# Altium integrated library Resistors.IntLib: 40 symbols
Pins are listed as number, name and electrical type; pins without a type are passive.

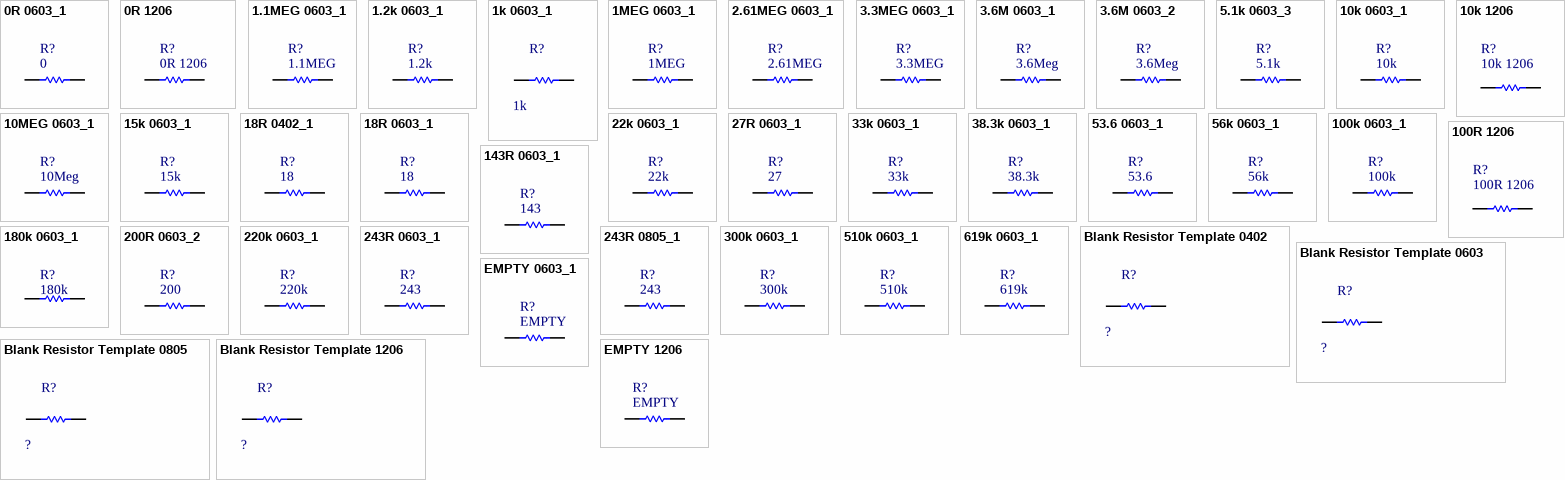
[diagram p0: symbols 0R 0603_1 to EMPTY 1206]

## 0R 0603_1
designator R?, comment 0
0.0R 0603 1/10W; Fabrication Tested: NO; Creator and Date: Will Flanery 2010-02-12; Footprint Verified By: *; Schematic Verified By: *; Vendor Info Verified By: *; Supplier 1: Digi-Key; Supplier Part Number 1: RMCF0603ZT0R00CT-ND; Value: 0
footprint 1608[0603] - Resistor (Chip Capacitor; Body 1.6 x 0.8 mm (LxW typ))
simulation model Model Name (Model Description)
simulation model RES (Default semiconductor resistor)
pins: 1, 2

## 0R 1206
designator R?
Manufacturer Part Number: ERJ-8GEY0R00V; Manufacturer: Panasonic - ECG; Temperature Coefficient: -100/+600ppm/°C; Tolerance: Jumper; Resistance In Ohms: 0.0; Power (Watts): 0.25W, 1/4W; Description: RES ZERO OHM 1/4W 5% 1206 SMD; Packaging: Cut Tape (CT); RoHS: RoHS Compliant; Category: Resistors; Case: 1206 (3216 metric); Lead Style: Surface Mount (SMD - SMT); Composition: Thick Film; ComponentLink1URL: http://industrial.panasonic.com/www-cgi/jvcr13pz.cgi?E+PZ+3+AOA0001+ERJ8GEY0R00V+7+WW; ComponentLink1Description: http://industrial.panasonic.com/www-cgi/jvcr13pz.cgi?E+PZ+3+AOA0001+ERJ8GEY0R00V+7+WW; Pricing: 10=0.094, 50=0.0506, 200=0.0291, 1000=0.01987 (USD); Stock: 312000; Supplier 1: Digi-Key; Supplier Part Number 1: P0.0ECT-ND; Supplier Part Number: P0.0ECT-ND; Supplier: Digi-Key
footprint RESC3216M (Chip Resistor, Body 3.2x1.6mm, IPC Low Density)
simulation model RESISTOR (Resistor)
signal-integrity model Res
pins: 1, 2

## 1.1MEG 0603_1
designator R?, comment 1.1MEG
1.1MEG 0603 1% 1/10W; Fabrication Tested: NO; Creator and Date: *; Footprint Verified By: *; Schematic Verified By: *; Vendor Info Verified By: *; Supplier 1: Digi-Key; Supplier Part Number 1: P1.10MHCT-ND; Value: 1.1MEG
footprint 1608[0603] - Resistor (Chip Capacitor; Body 1.6 x 0.8 mm (LxW typ))
simulation model Model Name (Model Description)
simulation model RES (Default semiconductor resistor)
pins: 1, 2

## 1.2k 0603_1
designator R?, comment 1.2k
1.2k 0603 5% 1/10W; Fabrication Tested: NO; Creator and Date: Will Flanery 6/17/2010; Footprint Verified By: *; Schematic Verified By: *; Vendor Info Verified By: *; Supplier 1: Digi-Key; Supplier Part Number 1: RMCF1/161.2KJRCT-ND; Value: 1.2k
footprint 1608[0603] - Resistor (Chip Capacitor; Body 1.6 x 0.8 mm (LxW typ))
simulation model Model Name (Model Description)
simulation model RES (Default semiconductor resistor)
pins: 1, 2

## 1k 0603_1
designator R?, comment 1k
1k 0603 1% 1/10W; Fabrication Tested: NO; Creator and Date: Will Flanery 2010-02-12; Footprint Verified By: *; Schematic Verified By: *; Vendor Info Verified By: *; Supplier 1: Digi-Key; Value: 1k; Supplier Part Number 1: RMCF0603FT1K00CT-ND
footprint 1608[0603] - Resistor (Chip Capacitor; Body 1.6 x 0.8 mm (LxW typ))
simulation model Model Name (Model Description)
simulation model RES (Default semiconductor resistor)
pins: 1, 2

## 1MEG 0603_1
designator R?, comment 1MEG
1Meg 0603 1% 1/10W; Fabrication Tested: NO; Creator and Date: *; Footprint Verified By: *; Schematic Verified By: *; Vendor Info Verified By: *; Supplier 1: Digi-Key; Supplier Part Number 1: P1.00MHCT-ND; Value: 1MEG
footprint 1608[0603] - Resistor (Chip Capacitor; Body 1.6 x 0.8 mm (LxW typ))
simulation model Model Name (Model Description)
simulation model RES (Default semiconductor resistor)
pins: 1, 2

## 2.61MEG 0603_1
designator R?, comment 2.61MEG
2.61MEG 0603 1% 1/10W; Fabrication Tested: NO; Creator and Date: *; Footprint Verified By: *; Schematic Verified By: *; Vendor Info Verified By: *; Supplier 1: Digi-Key; Supplier Part Number 1: 541-2.61MHCT-ND; Value: 2.61MEG
footprint 1608[0603] - Resistor (Chip Capacitor; Body 1.6 x 0.8 mm (LxW typ))
simulation model Model Name (Model Description)
simulation model RES (Default semiconductor resistor)
pins: 1, 2

## 3.3MEG 0603_1
designator R?, comment 3.3MEG
3.3 Meg 0603 5% 1/10W; Fabrication Tested: NO; Creator and Date: Will Flanery 2010-02-12; Footprint Verified By: *; Schematic Verified By: *; Vendor Info Verified By: *; Supplier 1: Digi-Key; Supplier Part Number 1: RMCF1/163.3MJRCT-ND; Supplier 2: Digi-Key; Supplier Part Number 2: 311-3.3MGRCT-ND; Value: 3.3MEG
footprint 1608[0603] - Resistor (Chip Capacitor; Body 1.6 x 0.8 mm (LxW typ))
simulation model Model Name (Model Description)
simulation model RES (Default semiconductor resistor)
pins: 1, 2

## 3.6M 0603_1
designator R?, comment 3.6Meg
3.6M 0603 5% 1/10W; Fabrication Tested: NO; Creator and Date: *; Footprint Verified By: *; Schematic Verified By: *; Vendor Info Verified By: *; Supplier 1: Digi-Key; Supplier Part Number 1: P3.6MGCT-ND; Value: 3.6Meg
footprint 1608[0603] - Resistor (Chip Capacitor; Body 1.6 x 0.8 mm (LxW typ))
simulation model Model Name (Model Description)
simulation model RES (Default semiconductor resistor)
pins: 1, 2

## 3.6M 0603_2
designator R?, comment 3.6Meg
3.6M 0603 1% 1/10W; Fabrication Tested: NO; Creator and Date: *; Footprint Verified By: *; Schematic Verified By: *; Vendor Info Verified By: *; Supplier 1: Digi-Key; Supplier Part Number 1: 541-3.65MHCT-ND; Value: 3.6Meg
footprint 1608[0603] - Resistor (Chip Capacitor; Body 1.6 x 0.8 mm (LxW typ))
simulation model Model Name (Model Description)
simulation model RES (Default semiconductor resistor)
pins: 1, 2

## 5.1k 0603_3
designator R?, comment 5.1k
5.1k 0603 1% 1/10W; Fabrication Tested: NO; Creator and Date: Will Flanery 2010-02-12; Footprint Verified By: *; Schematic Verified By: *; Vendor Info Verified By: *; Supplier 1: Digi-Key; Supplier Part Number 1: RMCF1/165.1KFRCT-ND; Value: 5.1k
footprint 1608[0603] - Resistor (Chip Capacitor; Body 1.6 x 0.8 mm (LxW typ))
simulation model Model Name (Model Description)
simulation model RES (Default semiconductor resistor)
pins: 1, 2

## 10k 0603_1
designator R?, comment 10k
10k 0603 1% 1/10W; Fabrication Tested: NO; Creator and Date: Will Flanery 2010-02-12; Footprint Verified By: *; Schematic Verified By: *; Vendor Info Verified By: *; Supplier 1: Digi-Key; Supplier Part Number 1: RMCF1/1610KFRCT-ND; Value: 10k
footprint 1608[0603] - Resistor (Chip Capacitor; Body 1.6 x 0.8 mm (LxW typ))
simulation model Model Name (Model Description)
simulation model RES (Default semiconductor resistor)
pins: 1, 2

## 10k 1206
designator R?
Thick Film Chip Resistor, 1 Ohm to 10M Ohm Range, 5% Tolerance, 1206 Size, 0.25 W; Manufacturer Part Number: ERJ-8ENF1002V; Manufacturer: Panasonic - ECG; Tolerance: ±1%; Power (Watts): 0.25W, 1/4W; Resistance In Ohms: 10.0K; Description: RES 10.0K OHM 1/4W 1% 1206 SMD; Lead Style: Surface Mount (SMD - SMT); Composition: Thick Film; RoHS: RoHS Compliant; Case: 1206 (3216 metric); Category: Resistors; Supplier 1: Digi-Key; Supplier Part Number 1: P10.0KFCT-ND
footprint RESC3216M (Chip Resistor, Body 3.2x1.6mm, IPC Low Density)
simulation model RESISTOR (Resistor)
signal-integrity model Res
pins: 1, 2

## 10MEG 0603_1
designator R?, comment 10Meg
10MEG 0603 % W; Fabrication Tested: NO; Creator and Date: Will Flanery 2010-09-03; Footprint Verified By: *; Schematic Verified By: *; Vendor Info Verified By: *; Supplier 1: Digi-Key; Supplier Part Number 1: P1.10MHCT-ND; Supplier 2: Digi-Key; Supplier Part Number 2: RHM10.0MAYCT-ND; Value: 10Meg
footprint 1608[0603] - Resistor (Chip Capacitor; Body 1.6 x 0.8 mm (LxW typ))
simulation model Model Name (Model Description)
simulation model RES (Default semiconductor resistor)
pins: 1, 2

## 15k 0603_1
designator R?, comment 15k
15k 0603 5% 1/10W; Fabrication Tested: NO; Creator and Date: *; Footprint Verified By: *; Schematic Verified By: *; Vendor Info Verified By: *; Supplier 1: Digi-Key; Supplier Part Number 1: P15KGCT-ND; Value: 15k
footprint 1608[0603] - Resistor (Chip Capacitor; Body 1.6 x 0.8 mm (LxW typ))
simulation model Model Name (Model Description)
simulation model RES (Default semiconductor resistor)
pins: 1, 2

## 18R 0402_1
designator R?, comment 18
18R 0402 1% 1/10W; Fabrication Tested: NO; Creator and Date: *; Footprint Verified By: *; Schematic Verified By: *; Vendor Info Verified By: *; Supplier 1: Digi-Key; Supplier Part Number 1: P18.0LCT-ND; Value: 18
footprint 1005[0402] (Chip Resistor; Body 1.1 x 0.5 mm (LxW typ))
simulation model Model Name (Model Description)
simulation model RES (Default semiconductor resistor)
pins: 1, 2

## 18R 0603_1
designator R?, comment 18
18R 0603 1% 1/10W; Fabrication Tested: NO; Creator and Date: Will Flanery; Footprint Verified By: *; Schematic Verified By: *; Vendor Info Verified By: *; Supplier 1: Digi-Key; Supplier Part Number 1: P18.0HCT-ND; Supplier 2: Digi-Key; Supplier Part Number 2: RHM18.0HCT-ND; Value: 18
footprint 1608[0603] - Resistor (Chip Capacitor; Body 1.6 x 0.8 mm (LxW typ))
simulation model Model Name (Model Description)
simulation model RES (Default semiconductor resistor)
pins: 1, 2

## 22k 0603_1
designator R?, comment 22k
22k 0603 5% 1/10W; Fabrication Tested: NO; Creator and Date: Will Flanery 2010-02-12; Footprint Verified By: *; Schematic Verified By: *; Vendor Info Verified By: *; Supplier 1: Digi-Key; Supplier Part Number 1: RMCF1/1622KJRCT-ND; Value: 22k
footprint 1608[0603] - Resistor (Chip Capacitor; Body 1.6 x 0.8 mm (LxW typ))
simulation model Model Name (Model Description)
simulation model RES (Default semiconductor resistor)
pins: 1, 2

## 27R 0603_1
designator R?, comment 27
27R 0603 1% 1/5W; Fabrication Tested: NO; Creator and Date: Will Flanery 2010-07-09; Footprint Verified By: *; Schematic Verified By: *; Vendor Info Verified By: *; Supplier 1: Digi-Key; Supplier Part Number 1: RP16S27FCT-ND; Value: 27
footprint 1608[0603] - Resistor (Chip Capacitor; Body 1.6 x 0.8 mm (LxW typ))
simulation model Model Name (Model Description)
simulation model RES (Default semiconductor resistor)
pins: 1, 2

## 33k 0603_1
designator R?, comment 33k
val 0603 5% 1/10W; Fabrication Tested: NO; Creator and Date: Will Flanery 2010-02-12; Footprint Verified By: *; Schematic Verified By: *; Vendor Info Verified By: *; Supplier 1: Digi-Key; Supplier Part Number 1: RMCF1/1633KJRCT-ND; Value: 33k
footprint 1608[0603] - Resistor (Chip Capacitor; Body 1.6 x 0.8 mm (LxW typ))
simulation model Model Name (Model Description)
simulation model RES (Default semiconductor resistor)
pins: 1, 2

## 38.3k 0603_1
designator R?, comment 38.3k
38.3k 0603 1% 1/10W; Fabrication Tested: NO; Creator and Date: Will Flanery 2010-02-12; Footprint Verified By: *; Schematic Verified By: *; Vendor Info Verified By: *; Supplier 1: Digi-Key; Supplier Part Number 1: 311-38.3KHRCT-ND; Value: 38.3k
footprint 1608[0603] - Resistor (Chip Capacitor; Body 1.6 x 0.8 mm (LxW typ))
simulation model Model Name (Model Description)
simulation model RES (Default semiconductor resistor)
pins: 1, 2

## 53.6 0603_1
designator R?, comment 53.6
53.6 0603 1% 1/10W; Fabrication Tested: NO; Creator and Date: Will Flanery 2010-07-09; Footprint Verified By: *; Schematic Verified By: *; Vendor Info Verified By: *; Supplier 1: Digi-Key; Supplier Part Number 1: 541-53.6HCT-ND; Value: 53.6
footprint 1608[0603] - Resistor (Chip Capacitor; Body 1.6 x 0.8 mm (LxW typ))
simulation model Model Name (Model Description)
simulation model RES (Default semiconductor resistor)
pins: 1, 2

## 56k 0603_1
designator R?, comment 56k
56k 0603 1% 1/10W; Fabrication Tested: NO; Creator and Date: Will Flanery 2010-02-12; Footprint Verified By: *; Schematic Verified By: *; Vendor Info Verified By: *; Supplier 1: Digi-Key; Supplier Part Number 1: P56.0KHCT-ND; Value: 56k
footprint 1608[0603] - Resistor (Chip Capacitor; Body 1.6 x 0.8 mm (LxW typ))
simulation model Model Name (Model Description)
simulation model RES (Default semiconductor resistor)
pins: 1, 2

## 100k 0603_1
designator R?, comment 100k
100k 0603 5% 1/10W; Fabrication Tested: NO; Creator and Date: Will Flanery 2010-02-11; Footprint Verified By: *; Schematic Verified By: *; Vendor Info Verified By: *; Supplier 1: Digi-Key; Supplier Part Number 1: RMCF0603JT100KCT-ND; Value: 100k
footprint 1608[0603] - Resistor (Chip Capacitor; Body 1.6 x 0.8 mm (LxW typ))
simulation model Model Name (Model Description)
simulation model RES (Default semiconductor resistor)
pins: 1, 2

## 100R 1206
designator R?
Manufacturer: Panasonic - ECG; Manufacturer Part Number: ERJ-8ENF1000V; Temperature Coefficient: ±100ppm/°C; Tolerance: ±1%; Power (Watts): 0.25W, 1/4W; Resistance In Ohms: 100; Description: RES 100 OHM 1/4W 1% 1206 SMD; Case: 1206 (3216 metric); Packaging: Cut Tape (CT); Composition: Thick Film; Lead Style: Surface Mount (SMD - SMT); Category: Resistors; RoHS: RoHS Compliant; Stock: 118560; Pricing: 10=0.117, 50=0.063, 200=0.03615, 1000=0.02465 (USD); Supplier 1: Digi-Key; Supplier Part Number 1: P100FCT-ND; Supplier Part Number: P100FCT-ND; Supplier: Digi-Key
footprint RESC3216M (Chip Resistor, Body 3.2x1.6mm, IPC Low Density)
simulation model RESISTOR (Resistor)
signal-integrity model Res
pins: 1, 2

## 143R 0603_1
designator R?, comment 143
143R 0603 1% 1/10W; Fabrication Tested: NO; Creator and Date: Will Flanery 6/17/2010; Footprint Verified By: *; Schematic Verified By: *; Vendor Info Verified By: *; Supplier 1: Digi-Key; Supplier Part Number 1: 311-143HRCT-ND; Value: 143
footprint 1608[0603] - Resistor (Chip Capacitor; Body 1.6 x 0.8 mm (LxW typ))
simulation model Model Name (Model Description)
simulation model RES (Default semiconductor resistor)
pins: 1, 2

## 180k 0603_1
designator R?, comment 180k
180k 0603 1% 1/10W; Fabrication Tested: NO; Creator and Date: Will Flanery 2010-07-13; Footprint Verified By: *; Schematic Verified By: *; Vendor Info Verified By: *; Supplier 1: Digi-Key; Supplier Part Number 1: P180KHCT-ND; Value: 180k
footprint 1608[0603] - Resistor (Chip Capacitor; Body 1.6 x 0.8 mm (LxW typ))
simulation model Model Name (Model Description)
simulation model RES (Default semiconductor resistor)
pins: 1, 2

## 200R 0603_2
designator R?, comment 200
200R 0603 1% 1/10W; Fabrication Tested: NO; Creator and Date: Will Flanery 2010-02-12; Footprint Verified By: *; Schematic Verified By: *; Vendor Info Verified By: *; Supplier 1: Digi-Key; Supplier Part Number 1: RMCF1/16200FRCT-ND; Value: 200
footprint 1608[0603] - Resistor (Chip Capacitor; Body 1.6 x 0.8 mm (LxW typ))
simulation model Model Name (Model Description)
simulation model RES (Default semiconductor resistor)
pins: 1, 2

## 220k 0603_1
designator R?, comment 220k
220k 0603 5% 1/10W; Fabrication Tested: NO; Creator and Date: Will Flanery 2010-02-12; Footprint Verified By: *; Schematic Verified By: *; Vendor Info Verified By: *; Supplier 1: Digi-Key; Supplier Part Number 1: RMCF1/16220KJRCT-ND; Value: 220k
footprint 1608[0603] - Resistor (Chip Capacitor; Body 1.6 x 0.8 mm (LxW typ))
simulation model Model Name (Model Description)
simulation model RES (Default semiconductor resistor)
pins: 1, 2

## 243R 0603_1
designator R?, comment 243
243R 0603 1% 1/10W; Fabrication Tested: NO; Creator and Date: Will Flanery 2010-02-10; Footprint Verified By: *; Schematic Verified By: *; Vendor Info Verified By: *; Supplier 1: Digi-Key; Supplier Part Number 1: RMCF1/16243FRCT-ND; Value: 243
footprint 1608[0603] - Resistor (Chip Capacitor; Body 1.6 x 0.8 mm (LxW typ))
simulation model Model Name (Model Description)
simulation model RES (Default semiconductor resistor)
pins: 1, 2

## 243R 0805_1
designator R?, comment 243
243R 0805 1% 1/8W; Fabrication Tested: NO; Creator and Date: Will Flanery 2010-02-10; Footprint Verified By: *; Schematic Verified By: *; Vendor Info Verified By: *; Supplier 1: Digi-Key; Supplier Part Number 1: RHM243CCT-ND; Value: 243
footprint 2012[0805] (Chip Resistor; Body 2.0 x 1.3 mm (LxW typ))
simulation model Model Name (Model Description)
simulation model RES (Default semiconductor resistor)
pins: 1, 2

## 300k 0603_1
designator R?, comment 300k
300k 0603 1% 1/10W; Fabrication Tested: NO; Creator and Date: Will Flanery 3/19/2010; Footprint Verified By: *; Schematic Verified By: *; Vendor Info Verified By: *; Supplier 1: Digi-Key; Supplier Part Number 1: P300KHCT-ND; Value: 300k
footprint 1608[0603] - Resistor (Chip Capacitor; Body 1.6 x 0.8 mm (LxW typ))
simulation model Model Name (Model Description)
simulation model RES (Default semiconductor resistor)
pins: 1, 2

## 510k 0603_1
designator R?, comment 510k
510k 0603 5% 1/10W; Fabrication Tested: NO; Creator and Date: *; Footprint Verified By: *; Schematic Verified By: *; Vendor Info Verified By: *; Supplier 1: Digi-Key; Supplier Part Number 1: P510KGCT-ND; Value: 510k
footprint 1608[0603] - Resistor (Chip Resistor Body 1.6 x 0.8 mm (LxW typ))
simulation model Model Name (Model Description)
simulation model RES (Default semiconductor resistor)
pins: 1, 2

## 619k 0603_1
designator R?, comment 619k
619k 0603 1% 1/10W; Fabrication Tested: NO; Creator and Date: Will Flanery 2010-08-25; Footprint Verified By: *; Schematic Verified By: *; Vendor Info Verified By: *; Supplier 1: Digi-Key; Supplier Part Number 1: 311-619KHRCT-ND; Value: 619k
footprint 1608[0603] - Resistor (Chip Capacitor; Body 1.6 x 0.8 mm (LxW typ))
simulation model Model Name (Model Description)
simulation model RES (Default semiconductor resistor)
pins: 1, 2

## Blank Resistor Template 0402
designator R?, comment ?
val 0402 % W; Fabrication Tested: NO; Creator and Date: *; Footprint Verified By: *; Schematic Verified By: *; Vendor Info Verified By: *; Value: ?
footprint 1005[0402] (Chip Resistor; Body 1.1 x 0.5 mm (LxW typ))
simulation model Model Name (Model Description)
simulation model RES (Default semiconductor resistor)
pins: 1, 2

## Blank Resistor Template 0603
designator R?, comment ?
val 0603 % W; Fabrication Tested: NO; Creator and Date: *; Footprint Verified By: *; Schematic Verified By: *; Vendor Info Verified By: *; Value: ?
footprint 1608[0603] - Resistor (Chip Capacitor; Body 1.6 x 0.8 mm (LxW typ))
simulation model Model Name (Model Description)
simulation model RES (Default semiconductor resistor)
pins: 1, 2

## Blank Resistor Template 0805
designator R?, comment ?
val 0805 % W; Fabrication Tested: NO; Creator and Date: *; Footprint Verified By: *; Schematic Verified By: *; Vendor Info Verified By: *; Value: ?
footprint 2012[0805] (Chip Resistor; Body 2.0 x 1.3 mm (LxW typ))
simulation model Model Name (Model Description)
simulation model RES (Default semiconductor resistor)
pins: 1, 2

## Blank Resistor Template 1206
designator R?, comment ?
val 1206 % W; Fabrication Tested: NO; Creator and Date: *; Footprint Verified By: *; Schematic Verified By: *; Vendor Info Verified By: *; Value: ?
footprint 3216[1206] (Chip Resistor; Body 3.2 x 1.6 mm (LxW typ))
simulation model Model Name (Model Description)
simulation model RES (Default semiconductor resistor)
pins: 1, 2

## EMPTY 0603_1
designator R?, comment EMPTY  (no BOM)
EMPTY 0603; Fabrication Tested: NO; Value: 9999999999999; Creator and Date: Will Flanery 2010-02-11; Footprint Verified By: *; Schematic Verified By: *; Vendor Info Verified By: *
footprint 1608[0603] (Chip Capacitor; Body 1.6 x 0.8 mm (LxW typ))
simulation model Model Name (Model Description)
simulation model RES (Default semiconductor resistor)
pins: 1, 2

## EMPTY 1206
designator R?, comment EMPTY  (no BOM)
Do Not Populate
footprint RESC3216M (Chip Resistor, Body 3.2x1.6mm, IPC Low Density)
simulation model RESISTOR (Resistor)
signal-integrity model Res
pins: 1, 2